# EAGLE library part TLV2404 (library FCC_parts)
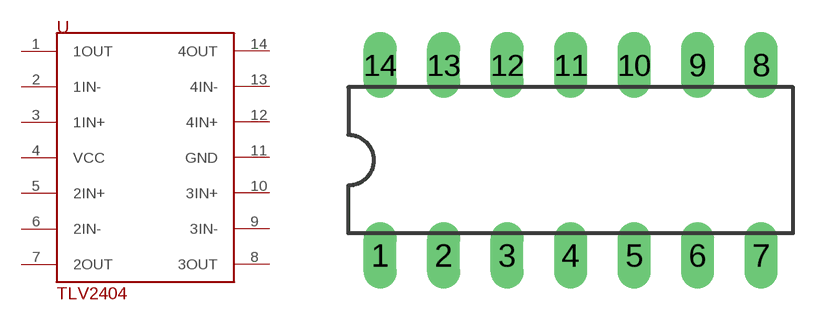
[diagram p10: symbol with the pads of DIL14; footprint DIL14]

Designator prefix -

## TLV2404TLV2404  [DIL14]
1  1OUT
2  1IN-
3  1IN+
4  VCC
5  2IN+
6  2IN-
7  2OUT
8  3OUT
9  3IN-
10  3IN+
11  GND
12  4IN+
13  4IN-
14  4OUT

## Footprint DIL14 (pad centres in mm)
Dual In Line Package
drill 0.813 long: 1 -7.62,-3.81; 2 -5.08,-3.81; 3 -2.54,-3.81; 4 0,-3.81; 5 2.54,-3.81; 6 5.08,-3.81; 7 7.62,-3.81; 8 7.62,3.81; 9 5.08,3.81; 10 2.54,3.81; 11 0,3.81; 12 -2.54,3.81; 13 -5.08,3.81; 14 -7.62,3.81